# Altium schematic symbol library 1602LCD.SchLib: 1 symbol
Pins are listed as number, name and electrical type; pins without a type are passive.

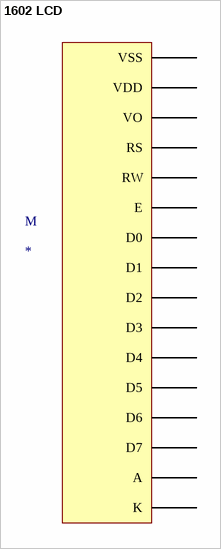
[diagram p0: symbol 1602 LCD]

## 1602 LCD
designator M
pins: 24 VDD, 25 VO, 26 RS, 27 RW, 28 E, 29 D0, 30 D1, 31 D2, 32 D3, 33 D4, 34 D5, 35 D6, 36 D7, 37 A, 38 K, VSS